# Altium schematic symbol library boost.SCHLIB: 6 symbols
Pins are listed as number, name and electrical type; pins without a type are passive.

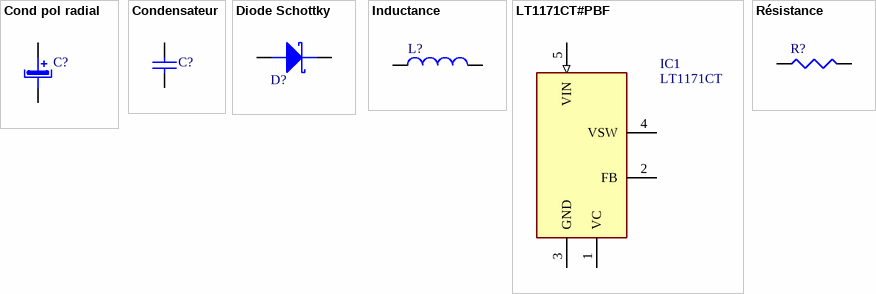
[diagram p0: symbols Cond pol radial to Résistance]

## Cond pol radial
designator C?
Condensateur polatisé; Type: Condensateur polarisé debout; Designer: ECAM 2004
pins: 1 +, 2 -
2 alternate drawings of the same symbol

## Condensateur
designator C?
Condensateur; Supplier: Farnell; Designer: ECAM 2004
pins: 1, 2

## Diode Schottky
designator D?
Diode Schottky; Designer: ECAM 2005
pins: 1 A, 2 K

## Inductance
designator L?
Inductance; Designer: ECAM 2003
pins: 1, 2

## LT1171CT#PBF
designator IC1, comment LT1171CT
Integrated Circuit; Manufacturer_Name: Linear Technology; Manufacturer_Part_Number: LT1171CT#PBF; Datasheet Link: http://docs-emea.rs-online.com/webdocs/13ec/0900766b813ec9fd.pdf; Height: 4.572mm; Mouser Part Number: 584-LT1171CT#PBF; Mouser Price/Stock: https://www.mouser.com/Search/Refine.aspx?Keyword=584-LT1171CT%23PBF; RS Part Number: 5455001; RS Price/Stock: https://uk.rs-online.com/web/p/products/5455001
footprint TO170P457X1022X2306-5P
pins: 1 VC, 2 FB, 3 GND (power), 4 VSW, 5 VIN (in)

## Résistance
designator R?
Résistance standard; Designer: ECAM 2005; Type: Résistance standard
pins: 1, 2
3 alternate drawings of the same symbol